# EAGLE library part TPS630250YFFT (library texasinstruments)
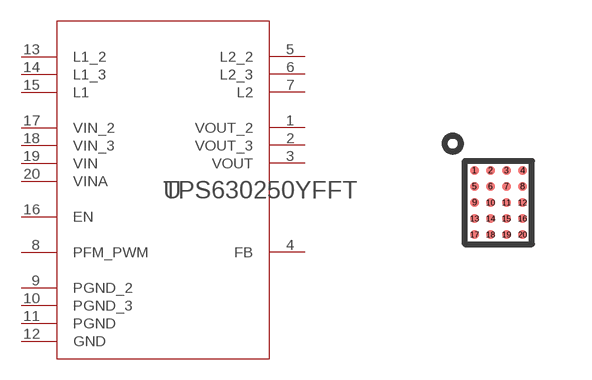
[diagram p3: symbol with the pads of YFF0020AEBA; footprint YFF0020AEBA]

Designator prefix U

## TPS630250YFFT (ADDRESS1: Not shown in title block; ADDRESS2: Not shown in title block; ADDRESS3: Not shown in title block; ADDRESS4: Not shown in title block; ALTERNATEMANUFACTURER: None; APPROVEDBY: Not shown in title block; AUTHOR: Not shown in title block; CHECKEDBY: Not shown in title block; COMPANYNAME: Not shown in title block; COMPONENTLINK1DESCRIPTION: Datasheet Link; COMPONENTLINK1URL: https://sps06.itg.ti.com/sites/KMS/crossdivteams/altium/docs/ComponentDatasheets/SLVSBJ9_TPS63025.pdf; COMPTYPE: IC; CURRENTDATE: Not shown in title block; CURRENTTIME: Not shown in title block; DATE: Not shown in title block; DESIGNATOR: U?; DOCUMENTFULLPATHANDNAME: Not shown in title block; DOCUMENTNAME: Not shown in title block; DOCUMENTNUMBER: 1; ENGINEER: Not shown in title block; IMAGEPATH: Not shown in title block; LATESTREVISIONDATE: 2014-04-03; MANUFACTURER: Texas Instruments; MODIFIEDDATE: Not shown in title block; MOUNTTYPE: SMT; ORGANIZATION: Not shown in title block; PACKAGEREFERENCE: YFF0020AEBA; PARTNUMBER: TPS630250YFF; PIN_COUNT: 20; PROJECTNAME: *; PUBLISHER: Texas Instruments; REVISION: Use project parameter SCH_Rev; ROHS: Y; RULE: *; SHEETNUMBER: 1; SHEETTOTAL: 1; SYMBOLCREATOR: a0411947; SYMBOLVERSION: 2014-03-11; TIME: Not shown in title block)  [YFF0020AEBA]
1  VOUT_2  pas
2  VOUT_3  pwr
3  VOUT  pwr
4  FB  in
5  L2_2  pwr
6  L2_3  pwr
7  L2  pwr
8  PFM_PWM  in
9  PGND_2  pwr
10  PGND_3  pwr
11  PGND  pwr
12  GND  pwr
13  L1_2  pas
14  L1_3  pas
15  L1  pas
16  EN  in
17  VIN_2  pwr
18  VIN_3  pwr
19  VIN  pwr
20  VINA  pwr

## Footprint YFF0020AEBA (pad centres in mm)
smd 0.229 x 0.229: 1 -0.6,0.8; 2 -0.2,0.8; 3 0.2,0.8; 4 0.6,0.8; 5 -0.6,0.4; 6 -0.2,0.4; 7 0.2,0.4; 8 0.6,0.4; 9 -0.6,0; 10 -0.2,0; 11 0.2,0; 12 0.6,0; 13 -0.6,-0.4; 14 -0.2,-0.4; 15 0.2,-0.4; 16 0.6,-0.4; 17 -0.6,-0.8; 18 -0.2,-0.8; 19 0.2,-0.8; 20 0.6,-0.8